# EAGLE library part LCDMODULE (library Metvoc)
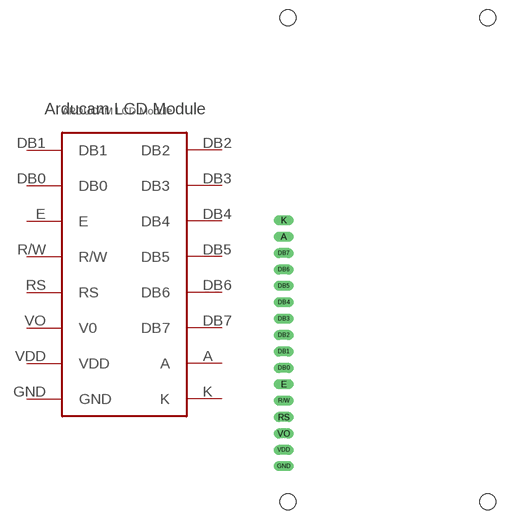
[diagram p1: symbol with the pads of LCDSCREEN; footprint LCDSCREEN]

Designator prefix -

## LCDMODULE  [LCDSCREEN]
A  A
DB0  DB0
DB1  DB1
DB2  DB2
DB3  DB3
DB4  DB4
DB5  DB5
DB6  DB6
DB7  DB7
E  E
GND  GND
K  K
R/W  R/W
RS  RS
VDD  VDD
VO  V0

## Footprint LCDSCREEN (pad centres in mm)
drill 1.016 long: A -16.12,35.56; DB0 -16.12,15.24; DB1 -16.12,17.78; DB2 -16.12,20.32; DB3 -16.12,22.86; DB4 -16.12,25.4; DB5 -16.12,27.94; DB6 -16.12,30.48; DB7 -16.12,33.02; E -16.12,12.7; GND -16.12,0; K -16.12,38.1; R/W -16.12,10.16; RS -16.12,7.62; VDD -16.12,2.54; VO -16.12,5.08
hole 2.5 at -15.5,-5.5
hole 2.5 at 15.5,-5.5
hole 2.5 at -15.5,69.5
hole 2.5 at 15.5,69.5